# EAGLE library part ADXRS6XX (library ADXRS6XX)
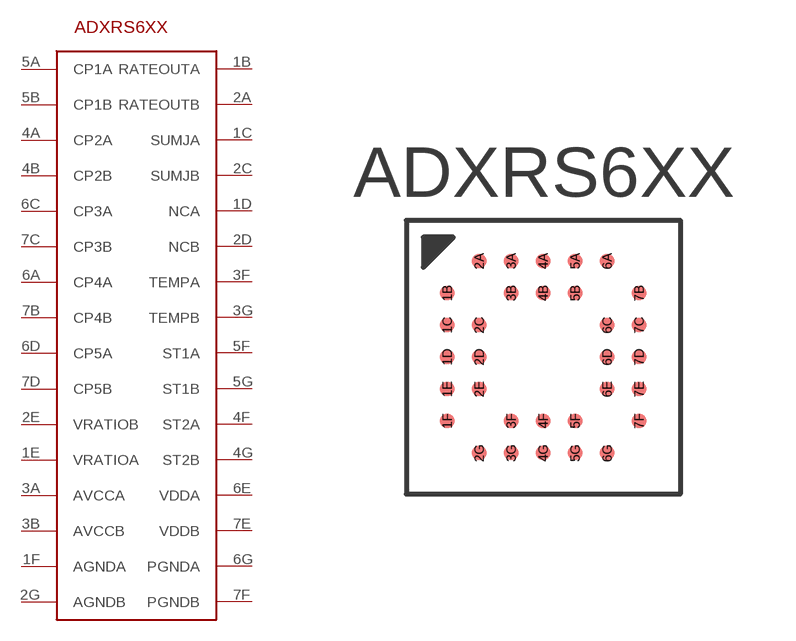
[diagram p0: symbol with the pads of ADXRS6XX; footprint ADXRS6XX]

Designator prefix -

## ADXRS6XX  [ADXRS6XX]
1B  RATEOUTA
1C  SUMJA
1D  NCA  nc
1E  VRATIOA
1F  AGNDA
2A  RATEOUTB
2C  SUMJB
2D  NCB  nc
2E  VRATIOB
2G  AGNDB
3A  AVCCA
3B  AVCCB
3F  TEMPA
3G  TEMPB
4A  CP2A
4B  CP2B
4F  ST2A
4G  ST2B
5A  CP1A
5B  CP1B
5F  ST1A
5G  ST1B
6A  CP4A
6C  CP3A
6D  CP5A
6E  VDDA
6G  PGNDA
7B  CP4B
7C  CP3B
7D  CP5B
7E  VDDB
7F  PGNDB

## Footprint ADXRS6XX (pad centres in mm)
smd 0.36 x 0.36: 1B -2.4,1.6; 1C -2.4,0.8; 1D -2.4,0; 1E -2.4,-0.8; 1F -2.4,-1.6; 2A -1.6,2.4; 2C -1.6,0.8; 2D -1.6,0; 2E -1.6,-0.8; 2G -1.6,-2.4; 3A -0.8,2.4; 3B -0.8,1.6; 3F -0.8,-1.6; 3G -0.8,-2.4; 4A 0,2.4; 4B 0,1.6; 4F 0,-1.6; 4G 0,-2.4; 5A 0.8,2.4; 5B 0.8,1.6; 5F 0.8,-1.6; 5G 0.8,-2.4; 6A 1.6,2.4; 6C 1.6,0.8; 6D 1.6,0; 6E 1.6,-0.8; 6G 1.6,-2.4; 7B 2.4,1.6; 7C 2.4,0.8; 7D 2.4,0; 7E 2.4,-0.8; 7F 2.4,-1.6